# Altium footprint library Revo_element.PcbLib: 178 footprints (part 6 of 12)
Each footprint in its own frame and in the unit in brackets; x right, y up, seen from the top. Pads: shape width x height; smd on the part's side, far side on the other; paste and mask are expansions set on the pad; w line width, h text height; cw(c..) or ccw(c..) is an arc to the next point about the centre after c.
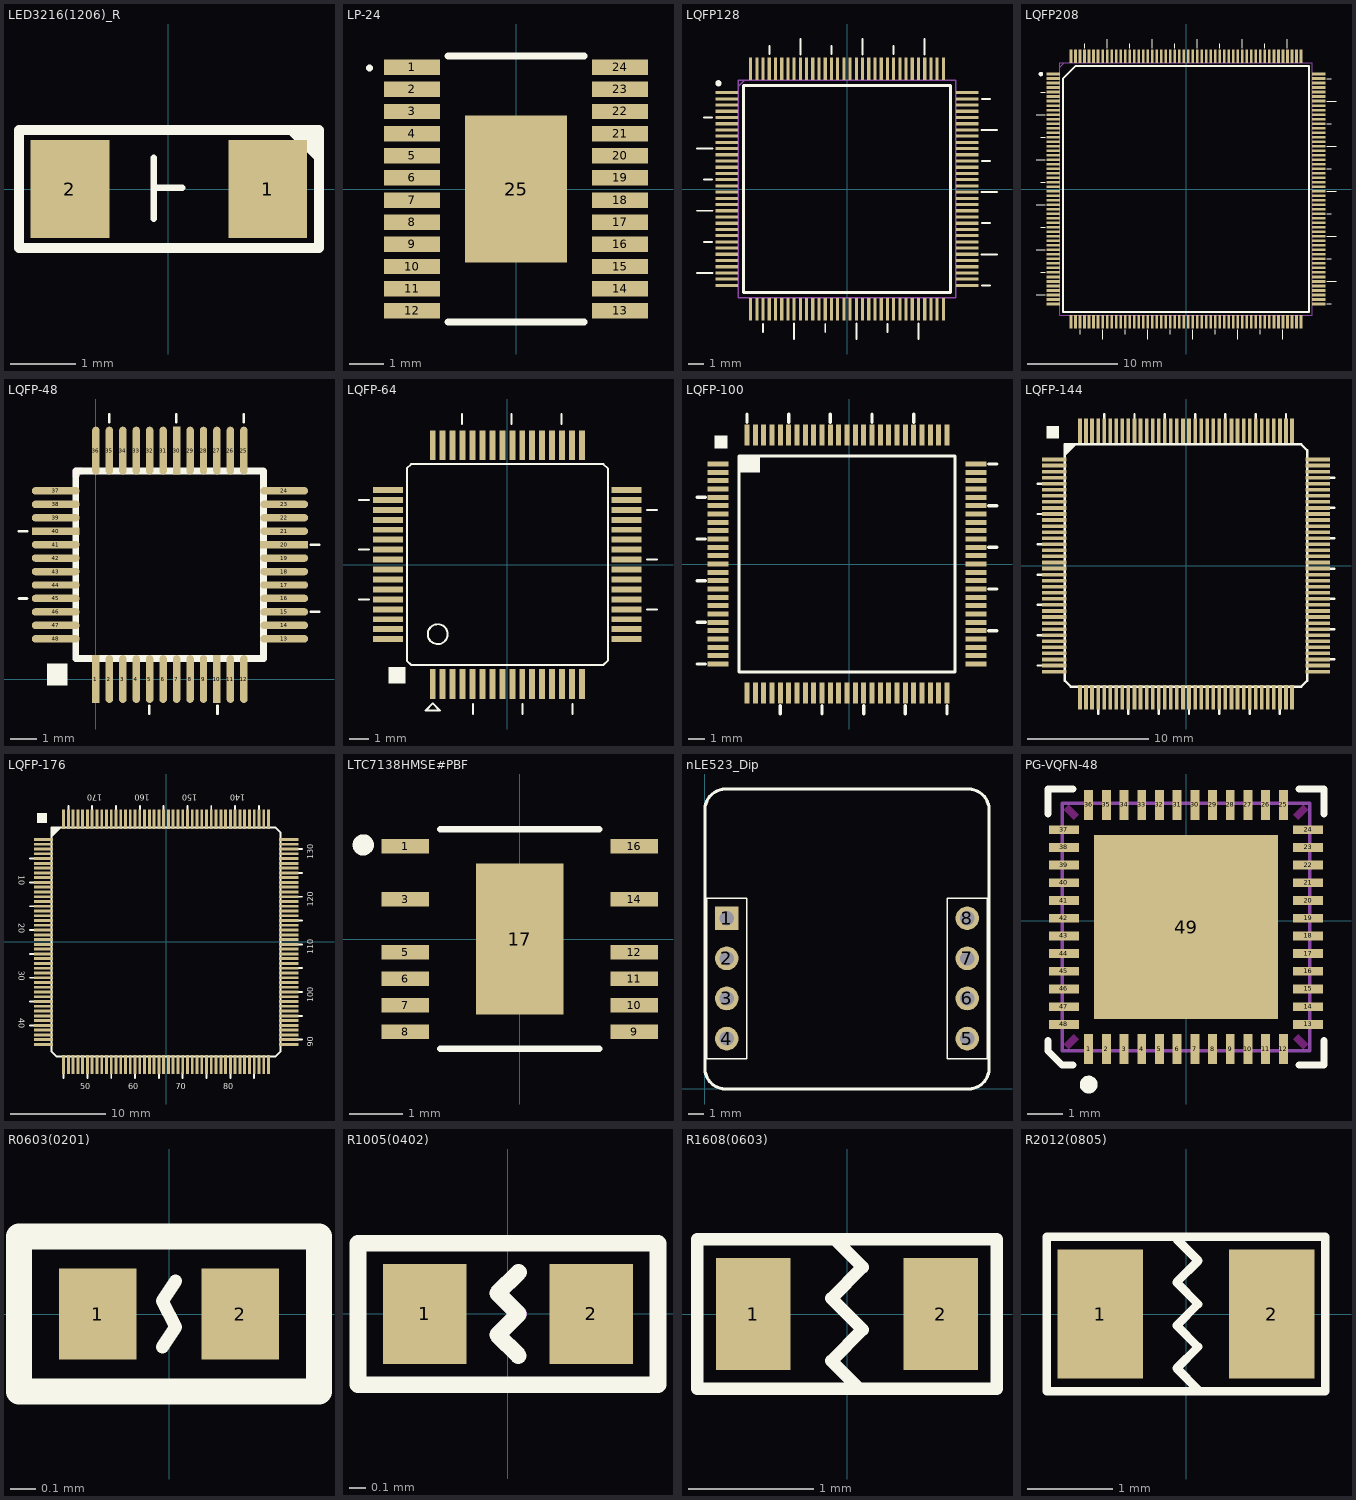
[diagram p5: the footprints below, top view; thin cyan lines are the x and y axes]

## LED3216(1206)_R [mm] "Chip LED 3216(1206)"
pads (2):
  rect 1.2x1.5 smd: 1(1.514,0) 2(-1.5,0)
Top Overlay:
  lines w0.1: -0.22,-0.45 -0.22,0.475 ; -0.22,0.02 0.21,0.02
  lines w0.152: 1.898,0.88 2.291,0.488 2.291,0.898 1.935,0.898 2.191,0.641 2.191,0.828 ; -2.277,-0.9 2.297,-0.9 2.297,0.9 -2.277,0.9 -2.277,-0.9
3D body "LED_1206_Red.stp": height 0.9, standoff 0, extent -1.646,-0.826 1.624,0.824

## LP-24 [mm]
pads (25):
  rect 1.65x0.45 smd: 1(-3.05,3.575) 2(-3.05,2.925) 3(-3.05,2.275) 4(-3.05,1.625) 5(-3.05,0.975) 6(-3.05,0.325) 7(-3.05,-0.325) 8(-3.05,-0.975) 9(-3.05,-1.625) 10(-3.05,-2.275) 11(-3.05,-2.925) 12(-3.05,-3.575) 13(3.05,-3.575) 14(3.05,-2.925) 15(3.05,-2.275) 16(3.05,-1.625) 17(3.05,-0.975) 18(3.05,-0.325) 19(3.05,0.325) 20(3.05,0.975) 21(3.05,1.625) 22(3.05,2.275) 23(3.05,2.925) 24(3.05,3.575)
  rect 3x4.32 smd: 25(0,0)
Top Overlay:
  lines w0.1: -4.3,3.5 cw(c-4.3,3.55) -4.3,3.6 cw(c-4.3,3.55) -4.3,3.5
  lines w0.2: -2,-3.9 2,-3.9 ; -2,3.9 2,3.9
3D body "AAS33001LLPBTR-DD.stp": height 1.24, standoff 0.04, extent -3.21,-3.9 3.21,3.9

## LQFP128 [mm]
pads (128):
  rect 1.475x0.2 smd: 1(-7.738,6.2) 2(-7.738,5.8) 3(-7.738,5.4) 4(-7.738,5) 5(-7.738,4.6) 6(-7.738,4.2) 7(-7.738,3.8) 8(-7.738,3.4) 9(-7.738,3) 10(-7.738,2.6) 11(-7.738,2.2) 12(-7.738,1.8) 13(-7.738,1.4) 14(-7.738,1) 15(-7.738,0.6) 16(-7.738,0.2) 17(-7.738,-0.2) 18(-7.738,-0.6) 19(-7.738,-1) 20(-7.738,-1.4) 21(-7.738,-1.8) 22(-7.738,-2.2) 23(-7.738,-2.6) 24(-7.738,-3) 25(-7.738,-3.4) 26(-7.738,-3.8) 27(-7.738,-4.2) 28(-7.738,-4.6) 29(-7.738,-5) 30(-7.738,-5.4) 31(-7.738,-5.8) 32(-7.738,-6.2) 65(7.738,-6.2) 66(7.738,-5.8) 67(7.738,-5.4) 68(7.738,-5) 69(7.738,-4.6) 70(7.738,-4.2) 71(7.738,-3.8) 72(7.738,-3.4) 73(7.738,-3) 74(7.738,-2.6) 75(7.738,-2.2) 76(7.738,-1.8) 77(7.738,-1.4) 78(7.738,-1) 79(7.738,-0.6) 80(7.738,-0.2) 81(7.738,0.2) 82(7.738,0.6) 83(7.738,1) 84(7.738,1.4) 85(7.738,1.8) 86(7.738,2.2) 87(7.738,2.6) 88(7.738,3) 89(7.738,3.4) 90(7.738,3.8) 91(7.738,4.2) 92(7.738,4.6) 93(7.738,5) 94(7.738,5.4) 95(7.738,5.8) 96(7.738,6.2)
  rect 0.2x1.475 smd: 33(-6.2,-7.738) 34(-5.8,-7.738) 35(-5.4,-7.738) 36(-5,-7.738) 37(-4.6,-7.738) 38(-4.2,-7.738) 39(-3.8,-7.738) 40(-3.4,-7.738) 41(-3,-7.738) 42(-2.6,-7.738) 43(-2.2,-7.738) 44(-1.8,-7.738) 45(-1.4,-7.738) 46(-1,-7.738) 47(-0.6,-7.738) 48(-0.2,-7.738) 49(0.2,-7.738) 50(0.6,-7.738) 51(1,-7.738) 52(1.4,-7.738) 53(1.8,-7.738) 54(2.2,-7.738) 55(2.6,-7.738) 56(3,-7.738) 57(3.4,-7.738) 58(3.8,-7.738) 59(4.2,-7.738) 60(4.6,-7.738) 61(5,-7.738) 62(5.4,-7.738) 63(5.8,-7.738) 64(6.2,-7.738) 97(6.2,7.738) 98(5.8,7.738) 99(5.4,7.738) 100(5,7.738) 101(4.6,7.738) 102(4.2,7.738) 103(3.8,7.738) 104(3.4,7.738) 105(3,7.738) 106(2.6,7.738) 107(2.2,7.738) 108(1.8,7.738) 109(1.4,7.738) 110(1,7.738) 111(0.6,7.738) 112(0.2,7.738) 113(-0.2,7.738) 114(-0.6,7.738) 115(-1,7.738) 116(-1.4,7.738) 117(-1.8,7.738) 118(-2.2,7.738) 119(-2.6,7.738) 120(-3,7.738) 121(-3.4,7.738) 122(-3.8,7.738) 123(-4.2,7.738) 124(-4.6,7.738) 125(-5,7.738) 126(-5.4,7.738) 127(-5.8,7.738) 128(-6.2,7.738)
Top Overlay:
  circle w0.2: c-8.275,6.8 r0.1
  lines w0.127: -9.65,-5.4 -8.65,-5.4 ; -9.65,-1.4 -8.65,-1.4 ; -9.65,2.6 -8.65,2.6 ; -9.188,-3.4 -8.688,-3.4 ; -9.188,0.6 -8.688,0.6 ; -9.188,4.6 -8.688,4.6 ; -5.4,-9.188 -5.4,-8.688 ; -5,8.688 -5,9.188 ; -3.4,-9.65 -3.4,-8.65 ; -3,8.65 -3,9.65 ; -1.4,-9.188 -1.4,-8.688 ; -1,8.688 -1,9.188 ; 0.6,-9.65 0.6,-8.65 ; 1,8.65 1,9.65 ; 2.6,-9.188 2.6,-8.688 ; 3,8.688 3,9.188 ; 4.6,-9.65 4.6,-8.65 ; 5,8.65 5,9.65 ; 8.65,-4.2 9.65,-4.2 ; 8.65,-0.2 9.65,-0.2 ; 8.65,3.8 9.65,3.8 ; 8.688,-6.2 9.188,-6.2 ; 8.688,-2.2 9.188,-2.2 ; 8.688,1.8 9.188,1.8 ; 8.688,5.8 9.188,5.8
  lines w0.2: -6.65,-6.65 6.65,-6.65 6.65,6.65 -6.65,6.65 -6.65,-6.65
Mechanical 13:
  lines w0.1: -7,6.6 -6.6,7 ; -7,-7 7,-7 7,7 -7,7 -7,-7
3D body "SSD1963QL9.stp": height 1.6, standoff 0, extent -8,-8 8,8

## LQFP208 [mm]
pads (208):
  rect 1.475x0.3 smd: 1(-14.738,12.75) 2(-14.738,12.25) 3(-14.738,11.75) 4(-14.738,11.25) 5(-14.738,10.75) 6(-14.738,10.25) 7(-14.738,9.75) 8(-14.738,9.25) 9(-14.738,8.75) 10(-14.738,8.25) 11(-14.738,7.75) 12(-14.738,7.25) 13(-14.738,6.75) 14(-14.738,6.25) 15(-14.738,5.75) 16(-14.738,5.25) 17(-14.738,4.75) 18(-14.738,4.25) 19(-14.738,3.75) 20(-14.738,3.25) 21(-14.738,2.75) 22(-14.738,2.25) 23(-14.738,1.75) 24(-14.738,1.25) 25(-14.738,0.75) 26(-14.738,0.25) 27(-14.738,-0.25) 28(-14.738,-0.75) 29(-14.738,-1.25) 30(-14.738,-1.75) 31(-14.738,-2.25) 32(-14.738,-2.75) 33(-14.738,-3.25) 34(-14.738,-3.75) 35(-14.738,-4.25) 36(-14.738,-4.75) 37(-14.738,-5.25) 38(-14.738,-5.75) 39(-14.738,-6.25) 40(-14.738,-6.75) 41(-14.738,-7.25) 42(-14.738,-7.75) 43(-14.738,-8.25) 44(-14.738,-8.75) 45(-14.738,-9.25) 46(-14.738,-9.75) 47(-14.738,-10.25) 48(-14.738,-10.75) 49(-14.738,-11.25) 50(-14.738,-11.75) 51(-14.738,-12.25) 52(-14.738,-12.75) 105(14.738,-12.75) 106(14.738,-12.25) 107(14.738,-11.75) 108(14.738,-11.25) 109(14.738,-10.75) 110(14.738,-10.25) 111(14.738,-9.75) 112(14.738,-9.25) 113(14.738,-8.75) 114(14.738,-8.25) 115(14.738,-7.75) 116(14.738,-7.25) 117(14.738,-6.75) 118(14.738,-6.25) 119(14.738,-5.75) 120(14.738,-5.25) 121(14.738,-4.75) 122(14.738,-4.25) 123(14.738,-3.75) 124(14.738,-3.25) 125(14.738,-2.75) 126(14.738,-2.25) 127(14.738,-1.75) 128(14.738,-1.25) 129(14.738,-0.75) 130(14.738,-0.25) 131(14.738,0.25) 132(14.738,0.75) 133(14.738,1.25) 134(14.738,1.75) 135(14.738,2.25) 136(14.738,2.75) 137(14.738,3.25) 138(14.738,3.75) 139(14.738,4.25) 140(14.738,4.75) 141(14.738,5.25) 142(14.738,5.75) 143(14.738,6.25) 144(14.738,6.75) 145(14.738,7.25) 146(14.738,7.75) 147(14.738,8.25) 148(14.738,8.75) 149(14.738,9.25) 150(14.738,9.75) 151(14.738,10.25) 152(14.738,10.75) 153(14.738,11.25) 154(14.738,11.75) 155(14.738,12.25) 156(14.738,12.75)
  rect 0.3x1.475 smd: 53(-12.75,-14.738) 54(-12.25,-14.738) 55(-11.75,-14.738) 56(-11.25,-14.738) 57(-10.75,-14.738) 58(-10.25,-14.738) 59(-9.75,-14.738) 60(-9.25,-14.738) 61(-8.75,-14.738) 62(-8.25,-14.738) 63(-7.75,-14.738) 64(-7.25,-14.738) 65(-6.75,-14.738) 66(-6.25,-14.738) 67(-5.75,-14.738) 68(-5.25,-14.738) 69(-4.75,-14.738) 70(-4.25,-14.738) 71(-3.75,-14.738) 72(-3.25,-14.738) 73(-2.75,-14.738) 74(-2.25,-14.738) 75(-1.75,-14.738) 76(-1.25,-14.738) 77(-0.75,-14.738) 78(-0.25,-14.738) 79(0.25,-14.738) 80(0.75,-14.738) 81(1.25,-14.738) 82(1.75,-14.738) 83(2.25,-14.738) 84(2.75,-14.738) 85(3.25,-14.738) 86(3.75,-14.738) 87(4.25,-14.738) 88(4.75,-14.738) 89(5.25,-14.738) 90(5.75,-14.738) 91(6.25,-14.738) 92(6.75,-14.738) 93(7.25,-14.738) 94(7.75,-14.738) 95(8.25,-14.738) 96(8.75,-14.738) 97(9.25,-14.738) 98(9.75,-14.738) 99(10.25,-14.738) 100(10.75,-14.738) 101(11.25,-14.738) 102(11.75,-14.738) 103(12.25,-14.738) 104(12.75,-14.738) 157(12.75,14.738) 158(12.25,14.738) 159(11.75,14.738) 160(11.25,14.738) 161(10.75,14.738) 162(10.25,14.738) 163(9.75,14.738) 164(9.25,14.738) 165(8.75,14.738) 166(8.25,14.738) 167(7.75,14.738) 168(7.25,14.738) 169(6.75,14.738) 170(6.25,14.738) 171(5.75,14.738) 172(5.25,14.738) 173(4.75,14.738) 174(4.25,14.738) 175(3.75,14.738) 176(3.25,14.738) 177(2.75,14.738) 178(2.25,14.738) 179(1.75,14.738) 180(1.25,14.738) 181(0.75,14.738) 182(0.25,14.738) 183(-0.25,14.738) 184(-0.75,14.738) 185(-1.25,14.738) 186(-1.75,14.738) 187(-2.25,14.738) 188(-2.75,14.738) 189(-3.25,14.738) 190(-3.75,14.738) 191(-4.25,14.738) 192(-4.75,14.738) 193(-5.25,14.738) 194(-5.75,14.738) 195(-6.25,14.738) 196(-6.75,14.738) 197(-7.25,14.738) 198(-7.75,14.738) 199(-8.25,14.738) 200(-8.75,14.738) 201(-9.25,14.738) 202(-9.75,14.738) 203(-10.25,14.738) 204(-10.75,14.738) 205(-11.25,14.738) 206(-11.75,14.738) 207(-12.25,14.738) 208(-12.75,14.738)
Top Overlay:
  circle w0.25: c-16.1,12.75 r0.125
  lines w0.127: -16.638,-11.75 -15.638,-11.75 ; -16.638,-6.75 -15.638,-6.75 ; -16.638,-1.75 -15.638,-1.75 ; -16.638,3.25 -15.638,3.25 ; -16.638,8.25 -15.638,8.25 ; -16.138,-9.25 -15.638,-9.25 ; -16.138,-4.25 -15.638,-4.25 ; -16.138,0.75 -15.638,0.75 ; -16.138,5.75 -15.638,5.75 ; -16.138,10.75 -15.638,10.75 ; -11.75,-16.138 -11.75,-15.638 ; -11.25,15.638 -11.25,16.138 ; -9.25,-16.638 -9.25,-15.638 ; -8.75,15.638 -8.75,16.638 ; -6.75,-16.138 -6.75,-15.638 ; -6.25,15.638 -6.25,16.138 ; -4.25,-16.638 -4.25,-15.638 ; -3.75,15.638 -3.75,16.638 ; -1.75,-16.138 -1.75,-15.638 ; -1.25,15.638 -1.25,16.138 ; 0.75,-16.638 0.75,-15.638 ; 1.25,15.638 1.25,16.638 ; 3.25,-16.138 3.25,-15.638 ; 3.75,15.638 3.75,16.138 ; 5.75,-16.638 5.75,-15.638 ; 6.25,15.638 6.25,16.638 ; 8.25,-16.138 8.25,-15.638 ; 8.75,15.638 8.75,16.138 ; 10.75,-16.638 10.75,-15.638 ; 11.25,15.638 11.25,16.638 ; 15.638,-12.75 16.138,-12.75 ; 15.638,-10.25 16.638,-10.25 ; 15.638,-7.75 16.138,-7.75 ; 15.638,-5.25 16.638,-5.25 ; 15.638,-2.75 16.138,-2.75 ; 15.638,-0.25 16.638,-0.25 ; 15.638,2.25 16.138,2.25 ; 15.638,4.75 16.638,4.75 ; 15.638,7.25 16.138,7.25 ; 15.638,9.75 16.638,9.75 ; 15.638,12.25 16.138,12.25
  lines w0.2: -13.65,-13.65 -13.65,12.25 -12.25,13.65 13.65,13.65 13.65,-13.65 -13.65,-13.65
Mechanical 13:
  lines w0.1: -14,13.5 -13.5,14 ; -14,-14 14,-14 14,14 -14,14 -14,-14
3D body "STM32F429BGT6.stp": height 1.6, standoff 0, extent -15,-15 15,15

## LQFP-48 [mil]
pads (48):
  rect 10.97x70 smd: 1(0,0) 10(177.28,0) 30(118.18,334.68)
  oval 10.97x70 smd: 2(19.68,0) 3(39.38,0) 4(59.08,0) 5(78.78,0) 6(98.48,0) 7(118.18,0) 8(137.88,0) 9(157.58,0) 11(197,0) 12(216.68,0) 25(216.68,334.68) 26(197,334.68) 27(177.28,334.68) 28(157.58,334.68) 29(137.88,334.68) 31(98.48,334.68) 32(78.78,334.68) 33(59.08,334.68) 34(39.38,334.68) 35(19.68,334.68) 36(0,334.68)
  oval 70x10.97 smd: 13(275.68,59) 14(275.68,78.68) 15(275.68,98.38) 16(275.68,118.08) 17(275.68,137.78) 18(275.68,157.48) 19(275.68,177.18) 21(275.68,216.58) 22(275.68,236.28) 23(275.68,256) 24(275.68,275.68) 37(-58.98,275.68) 38(-58.98,256) 39(-58.98,236.28) 41(-58.98,196.88) 42(-58.98,177.18) 43(-58.98,157.48) 44(-58.98,137.78) 45(-58.98,118.08) 46(-58.98,98.38) 47(-58.98,78.68) 48(-58.98,59)
  rect 70x10.97 smd: 20(275.68,196.88) 40(-58.98,216.58)
Top Overlay:
  rectangle: -71.36,-9.35 -41.34,22.64
  lines w3.94: -112.7,118.11 -100.89,118.11 ; -112.7,216.54 -100.89,216.54 ; 19.68,375.98 19.68,387.8 ; 78.25,-50.69 78.25,-38.88 ; 117.62,375.98 117.62,387.8 ; 178.15,-50.69 178.15,-38.88 ; 216.54,375.98 216.54,387.8 ; 314.96,98.43 326.77,98.43 ; 314.96,196.85 326.77,196.85
  lines w10: -29.53,304.63 -29.53,30.02 245.78,30.02 ; -29.18,298.58 -29.18,304.78 -22.88,304.78 ; -29.18,304.63 245.57,304.63 245.57,29.78
Mechanical 1:
  lines w10: -29.18,298.58 -29.18,304.78 -22.88,304.78 ; 239.58,29.78 245.78,29.78
3D body "User Library-Quad50M48.step": height 61.42, standoff 0, extent -70.08,-10.49 284.25,343.84

## LQFP-64 [mm]
pads (64):
  rect 0.3x1.5 smd: 1(-3.75,-6) 2(-3.25,-6) 3(-2.75,-6) 4(-2.25,-6) 5(-1.75,-6) 6(-1.25,-6) 7(-0.75,-6) 8(-0.25,-6) 9(0.25,-6) 10(0.75,-6) 11(1.25,-6) 12(1.75,-6) 13(2.25,-6) 14(2.75,-6) 15(3.25,-6) 16(3.75,-6) 33(3.75,6) 34(3.25,6) 35(2.75,6) 36(2.25,6) 37(1.75,6) 38(1.25,6) 39(0.75,6) 40(0.25,6) 41(-0.25,6) 42(-0.75,6) 43(-1.25,6) 44(-1.75,6) 45(-2.25,6) 46(-2.75,6) 47(-3.25,6) 48(-3.75,6)
  rect 1.5x0.3 smd: 17(6,-3.75) 18(6,-3.25) 19(6,-2.75) 20(6,-2.25) 21(6,-1.75) 22(6,-1.25) 23(6,-0.75) 24(6,-0.25) 25(6,0.25) 26(6,0.75) 27(6,1.25) 28(6,1.75) 29(6,2.25) 30(6,2.75) 31(6,3.25) 32(6,3.75) 49(-6,3.75) 50(-6,3.25) 51(-6,2.75) 52(-6,2.25) 53(-6,1.75) 54(-6,1.25) 55(-6,0.75) 56(-6,0.25) 57(-6,-0.25) 58(-6,-0.75) 59(-6,-1.25) 60(-6,-1.75) 61(-6,-2.25) 62(-6,-2.75) 63(-6,-3.25) 64(-6,-3.75)
Top Overlay:
  circle w0.1: c-3.5,-3.5 r0.5
  rectangle: -5.975,-5.975 -5.125,-5.138
  lines w0.1: -7.448,-1.745 -6.948,-1.745 ; -7.448,0.755 -6.948,0.755 ; -7.448,3.255 -6.948,3.255 ; -2.278,7.07 -2.278,7.57 ; -1.727,-7.513 -1.727,-7.013 ; 0.222,7.07 0.222,7.57 ; 0.762,-7.513 0.762,-7.013 ; 2.722,7.07 2.722,7.57 ; 3.273,-7.513 3.273,-7.013 ; 7.016,-2.248 7.516,-2.248 ; 7.016,0.252 7.516,0.252 ; 7.016,2.752 7.516,2.752 ; -3.749,-6.982 -4.115,-7.347 -3.384,-7.347 -3.749,-6.982 ; -3.749,-6.982 -3.749,-6.982 ; -5.05,-4.833 -5.05,4.833 -4.833,5.05 4.833,5.05 5.05,4.833 5.05,-4.833 4.833,-5.05 -4.833,-5.05 -5.05,-4.833 ; -3.785,-7.017 -3.785,-7.017
3D body "User Library-LQFP-64.step": height 1.7, standoff -0.01, extent -6,-6 6,6

## LQFP-100 [mm]
pads (100):
  rect 1.25x0.3 smd: 1(-7.877,6) 2(-7.877,5.5) 3(-7.877,5) 4(-7.877,4.5) 5(-7.877,4) 6(-7.877,3.5) 7(-7.877,3) 8(-7.877,2.5) 9(-7.877,2) 10(-7.877,1.5) 11(-7.877,1) 12(-7.877,0.5) 13(-7.877,0) 14(-7.877,-0.5) 15(-7.877,-1) 16(-7.877,-1.5) 17(-7.877,-2) 18(-7.877,-2.5) 19(-7.877,-3) 20(-7.877,-3.5) 21(-7.877,-4) 22(-7.877,-4.5) 23(-7.877,-5) 24(-7.877,-5.5) 25(-7.877,-6) 51(7.623,-6) 52(7.623,-5.5) 53(7.623,-5) 54(7.623,-4.5) 55(7.623,-4) 56(7.623,-3.5) 57(7.623,-3) 58(7.623,-2.5) 59(7.623,-2) 60(7.623,-1.5) 61(7.623,-1) 62(7.623,-0.5) 63(7.623,0) 64(7.623,0.5) 65(7.623,1) 66(7.623,1.5) 67(7.623,2) 68(7.623,2.5) 69(7.623,3) 70(7.623,3.5) 71(7.623,4) 72(7.623,4.5) 73(7.623,5) 74(7.623,5.5) 75(7.623,6)
  rect 0.3x1.25 smd: 26(-6.127,-7.75) 27(-5.627,-7.75) 28(-5.127,-7.75) 29(-4.627,-7.75) 30(-4.127,-7.75) 31(-3.627,-7.75) 32(-3.127,-7.75) 33(-2.627,-7.75) 34(-2.127,-7.75) 35(-1.627,-7.75) 36(-1.127,-7.75) 37(-0.627,-7.75) 38(-0.127,-7.75) 39(0.373,-7.75) 40(0.873,-7.75) 41(1.373,-7.75) 42(1.873,-7.75) 43(2.373,-7.75) 44(2.873,-7.75) 45(3.373,-7.75) 46(3.873,-7.75) 47(4.373,-7.75) 48(4.873,-7.75) 49(5.373,-7.75) 50(5.873,-7.75) 76(5.873,7.75) 77(5.373,7.75) 78(4.873,7.75) 79(4.373,7.75) 80(3.873,7.75) 81(3.373,7.75) 82(2.873,7.75) 83(2.373,7.75) 84(1.873,7.75) 85(1.373,7.75) 86(0.873,7.75) 87(0.373,7.75) 88(-0.127,7.75) 89(-0.627,7.75) 90(-1.127,7.75) 91(-1.627,7.75) 92(-2.127,7.75) 93(-2.627,7.75) 94(-3.127,7.75) 95(-3.627,7.75) 96(-4.127,7.75) 97(-4.627,7.75) 98(-5.127,7.75) 99(-5.627,7.75) 100(-6.127,7.75)
Top Overlay:
  region: -8.059,6.934 -7.297,6.934 -7.297,7.696 -8.059,7.696
  region: -6.627,5.5 -5.377,5.5 -5.377,6.5 -6.627,6.5
  lines w0.2: -9.127,-6 -8.627,-6 ; -9.127,-3.5 -8.627,-3.5 ; -9.127,-1 -8.627,-1 ; -9.127,1.5 -8.627,1.5 ; -9.127,4 -8.627,4 ; -6.127,8.5 -6.127,9 ; -4.127,-9 -4.127,-8.5 ; -3.627,8.5 -3.627,9 ; -1.627,-9 -1.627,-8.5 ; -1.127,8.5 -1.127,9 ; 0.873,-9 0.873,-8.5 ; 1.373,8.5 1.373,9 ; 3.373,-9 3.373,-8.5 ; 3.873,8.5 3.873,9 ; 5.873,-9 5.873,-8.5 ; 8.373,-4 8.873,-4 ; 8.373,-1.5 8.873,-1.5 ; 8.373,1 8.873,1 ; 8.373,3.5 8.873,3.5 ; 8.373,6 8.873,6 ; -6.602,-6.475 -6.602,6.475 6.348,6.475 6.348,-6.475 -6.602,-6.475
3D body "SW3dPS-TQFP100-1.STEP": height 1.61, standoff -0.01, extent -8.127,-8 7.873,8

## LQFP-144 [mm]
pads (144):
  rect 2x0.3 smd: 1(-10.875,8.75) 2(-10.875,8.25) 3(-10.875,7.75) 4(-10.875,7.25) 5(-10.875,6.75) 6(-10.875,6.25) 7(-10.875,5.75) 8(-10.875,5.25) 9(-10.875,4.75) 10(-10.875,4.25) 11(-10.875,3.75) 12(-10.875,3.25) 13(-10.875,2.75) 14(-10.875,2.25) 15(-10.875,1.75) 16(-10.875,1.25) 17(-10.875,0.75) 18(-10.875,0.25) 19(-10.875,-0.25) 20(-10.875,-0.75) 21(-10.875,-1.25) 22(-10.875,-1.75) 23(-10.875,-2.25) 24(-10.875,-2.75) 25(-10.875,-3.25) 26(-10.875,-3.75) 27(-10.875,-4.25) 28(-10.875,-4.75) 29(-10.875,-5.25) 30(-10.875,-5.75) 31(-10.875,-6.25) 32(-10.875,-6.75) 33(-10.875,-7.25) 34(-10.875,-7.75) 35(-10.875,-8.25) 36(-10.875,-8.75) 73(10.875,-8.75) 74(10.875,-8.25) 75(10.875,-7.75) 76(10.875,-7.25) 77(10.875,-6.75) 78(10.875,-6.25) 79(10.875,-5.75) 80(10.875,-5.25) 81(10.875,-4.75) 82(10.875,-4.25) 83(10.875,-3.75) 84(10.875,-3.25) 85(10.875,-2.75) 86(10.875,-2.25) 87(10.875,-1.75) 88(10.875,-1.25) 89(10.875,-0.75) 90(10.875,-0.25) 91(10.875,0.25) 92(10.875,0.75) 93(10.875,1.25) 94(10.875,1.75) 95(10.875,2.25) 96(10.875,2.75) 97(10.875,3.25) 98(10.875,3.75) 99(10.875,4.25) 100(10.875,4.75) 101(10.875,5.25) 102(10.875,5.75) 103(10.875,6.25) 104(10.875,6.75) 105(10.875,7.25) 106(10.875,7.75) 107(10.875,8.25) 108(10.875,8.75)
  rect 0.3x2 smd: 37(-8.75,-10.875) 38(-8.25,-10.875) 39(-7.75,-10.875) 40(-7.25,-10.875) 41(-6.75,-10.875) 42(-6.25,-10.875) 43(-5.75,-10.875) 44(-5.25,-10.875) 45(-4.75,-10.875) 46(-4.25,-10.875) 47(-3.75,-10.875) 48(-3.25,-10.875) 49(-2.75,-10.875) 50(-2.25,-10.875) 51(-1.75,-10.875) 52(-1.25,-10.875) 53(-0.75,-10.875) 54(-0.25,-10.875) 55(0.25,-10.875) 56(0.75,-10.875) 57(1.25,-10.875) 58(1.75,-10.875) 59(2.25,-10.875) 60(2.75,-10.875) 61(3.25,-10.875) 62(3.75,-10.875) 63(4.25,-10.875) 64(4.75,-10.875) 65(5.25,-10.875) 66(5.75,-10.875) 67(6.25,-10.875) 68(6.75,-10.875) 69(7.25,-10.875) 70(7.75,-10.875) 71(8.25,-10.875) 72(8.75,-10.875) 109(8.75,11.125) 110(8.25,11.125) 111(7.75,11.125) 112(7.25,11.125) 113(6.75,11.125) 114(6.25,11.125) 115(5.75,11.125) 116(5.25,11.125) 117(4.75,11.125) 118(4.25,11.125) 119(3.75,11.125) 120(3.25,11.125) 121(2.75,11.125) 122(2.25,11.125) 123(1.75,11.125) 124(1.25,11.125) 125(0.75,11.125) 126(0.25,11.125) 127(-0.25,11.125) 128(-0.75,11.125) 129(-1.25,11.125) 130(-1.75,11.125) 131(-2.25,11.125) 132(-2.75,11.125) 133(-3.25,11.125) 134(-3.75,11.125) 135(-4.25,11.125) 136(-4.75,11.125) 137(-5.25,11.125) 138(-5.75,11.125) 139(-6.25,11.125) 140(-6.75,11.125) 141(-7.25,11.125) 142(-7.75,11.125) 143(-8.25,11.125) 144(-8.75,11.125)
Top Overlay:
  region: -10,9 -9,10 -10,10
  region: -11.5,10.5 -10.5,10.5 -10.5,11.5 -11.5,11.5
  lines w0.2: -12.25,-8.25 -11.75,-8.25 ; -12.25,-5.75 -11.75,-5.75 ; -12.25,-3.25 -11.75,-3.25 ; -12.25,-0.75 -11.75,-0.75 ; -12.25,1.75 -11.75,1.75 ; -12.25,4.25 -11.75,4.25 ; -12.25,6.75 -11.75,6.75 ; -7.25,-12.25 -7.25,-11.75 ; -6.75,12 -6.75,12.5 ; -4.75,-12.25 -4.75,-11.75 ; -4.25,12 -4.25,12.5 ; -2.25,-12.25 -2.25,-11.75 ; -1.75,12 -1.75,12.5 ; 0.25,-12.25 0.25,-11.75 ; 0.75,12 0.75,12.5 ; 2.75,-12.25 2.75,-11.75 ; 3.25,12 3.25,12.5 ; 5.25,-12.25 5.25,-11.75 ; 5.75,12 5.75,12.5 ; 7.75,-12.25 7.75,-11.75 ; 8.25,12 8.25,12.5 ; 11.75,-7.75 12.25,-7.75 ; 11.75,-5.25 12.25,-5.25 ; 11.75,-2.75 12.25,-2.75 ; 11.75,-0.25 12.25,-0.25 ; 11.75,2.25 12.25,2.25 ; 11.75,4.75 12.25,4.75 ; 11.75,7.25 12.25,7.25 ; -10,-9.5 -10,10 9.5,10 10,9.5 10,-9.5 9.5,-10 -9.5,-10 -10,-9.5
3D body "SW3dPS-DSP_144 PIN TQFP.STEP": height 1.7, standoff 0.05, extent -11.035,-10.96 10.965,11.04

## LQFP-176 [mm]
pads (176):
  rect 2x0.3 smd: 1(-12.875,10.75) 2(-12.875,10.25) 3(-12.875,9.75) 4(-12.875,9.25) 5(-12.875,8.75) 6(-12.875,8.25) 7(-12.875,7.75) 8(-12.875,7.25) 9(-12.875,6.75) 10(-12.875,6.25) 11(-12.875,5.75) 12(-12.875,5.25) 13(-12.875,4.75) 14(-12.875,4.25) 15(-12.875,3.75) 16(-12.875,3.25) 17(-12.875,2.75) 18(-12.875,2.25) 19(-12.875,1.75) 20(-12.875,1.25) 21(-12.875,0.75) 22(-12.875,0.25) 23(-12.875,-0.25) 24(-12.875,-0.75) 25(-12.875,-1.25) 26(-12.875,-1.75) 27(-12.875,-2.25) 28(-12.875,-2.75) 29(-12.875,-3.25) 30(-12.875,-3.75) 31(-12.875,-4.25) 32(-12.875,-4.75) 33(-12.875,-5.25) 34(-12.875,-5.75) 35(-12.875,-6.25) 36(-12.875,-6.75) 37(-12.875,-7.25) 38(-12.875,-7.75) 39(-12.875,-8.25) 40(-12.875,-8.75) 41(-12.875,-9.25) 42(-12.875,-9.75) 43(-12.875,-10.25) 44(-12.875,-10.75) 89(12.875,-10.75) 90(12.875,-10.25) 91(12.875,-9.75) 92(12.875,-9.25) 93(12.875,-8.75) 94(12.875,-8.25) 95(12.875,-7.75) 96(12.875,-7.25) 97(12.875,-6.75) 98(12.875,-6.25) 99(12.875,-5.75) 100(12.875,-5.25) 101(12.875,-4.75) 102(12.875,-4.25) 103(12.875,-3.75) 104(12.875,-3.25) 105(12.875,-2.75) 106(12.875,-2.25) 107(12.875,-1.75) 108(12.875,-1.25) 109(12.875,-0.75) 110(12.875,-0.25) 111(12.875,0.25) 112(12.875,0.75) 113(12.875,1.25) 114(12.875,1.75) 115(12.875,2.25) 116(12.875,2.75) 117(12.875,3.25) 118(12.875,3.75) 119(12.875,4.25) 120(12.875,4.75) 121(12.875,5.25) 122(12.875,5.75) 123(12.875,6.25) 124(12.875,6.75) 125(12.875,7.25) 126(12.875,7.75) 127(12.875,8.25) 128(12.875,8.75) 129(12.875,9.25) 130(12.875,9.75) 131(12.875,10.25) 132(12.875,10.75)
  rect 0.3x2 smd: 45(-10.75,-12.875) 46(-10.25,-12.875) 47(-9.75,-12.875) 48(-9.25,-12.875) 49(-8.75,-12.875) 50(-8.25,-12.875) 51(-7.75,-12.875) 52(-7.25,-12.875) 53(-6.75,-12.875) 54(-6.25,-12.875) 55(-5.75,-12.875) 56(-5.25,-12.875) 57(-4.75,-12.875) 58(-4.25,-12.875) 59(-3.75,-12.875) 60(-3.25,-12.875) 61(-2.75,-12.875) 62(-2.25,-12.875) 63(-1.75,-12.875) 64(-1.25,-12.875) 65(-0.75,-12.875) 66(-0.25,-12.875) 67(0.25,-12.875) 68(0.75,-12.875) 69(1.25,-12.875) 70(1.75,-12.875) 71(2.25,-12.875) 72(2.75,-12.875) 73(3.25,-12.875) 74(3.75,-12.875) 75(4.25,-12.875) 76(4.75,-12.875) 77(5.25,-12.875) 78(5.75,-12.875) 79(6.25,-12.875) 80(6.75,-12.875) 81(7.25,-12.875) 82(7.75,-12.875) 83(8.25,-12.875) 84(8.75,-12.875) 85(9.25,-12.875) 86(9.75,-12.875) 87(10.25,-12.875) 88(10.75,-12.875) 133(10.75,12.875) 134(10.25,12.875) 135(9.75,12.875) 136(9.25,12.875) 137(8.75,12.875) 138(8.25,12.875) 139(7.75,12.875) 140(7.25,12.875) 141(6.75,12.875) 142(6.25,12.875) 143(5.75,12.875) 144(5.25,12.875) 145(4.75,12.875) 146(4.25,12.875) 147(3.75,12.875) 148(3.25,12.875) 149(2.75,12.875) 150(2.25,12.875) 151(1.75,12.875) 152(1.25,12.875) 153(0.75,12.875) 154(0.25,12.875) 155(-0.25,12.875) 156(-0.75,12.875) 157(-1.25,12.875) 158(-1.75,12.875) 159(-2.25,12.875) 160(-2.75,12.875) 161(-3.25,12.875) 162(-3.75,12.875) 163(-4.25,12.875) 164(-4.75,12.875) 165(-5.25,12.875) 166(-5.75,12.875) 167(-6.25,12.875) 168(-6.75,12.875) 169(-7.25,12.875) 170(-7.75,12.875) 171(-8.25,12.875) 172(-8.75,12.875) 173(-9.25,12.875) 174(-9.75,12.875) 175(-10.25,12.875) 176(-10.75,12.875)
Top Overlay:
  region: -13.5,12.5 -12.5,12.5 -12.5,13.5 -13.5,13.5
  region: -12,11 -11,12 -12,12
  lines w0.2: -14.25,-8.75 -13.75,-8.75 ; -14.25,-6.25 -13.75,-6.25 ; -14.25,-3.75 -13.75,-3.75 ; -14.25,-1.25 -13.75,-1.25 ; -14.25,1.25 -13.75,1.25 ; -14.25,3.75 -13.75,3.75 ; -14.25,6.25 -13.75,6.25 ; -14.25,8.75 -13.75,8.75 ; -10.75,-14.25 -10.75,-13.75 ; -10.25,13.75 -10.25,14.25 ; -8.25,-14.25 -8.25,-13.75 ; -7.75,13.75 -7.75,14.25 ; -5.75,-14.25 -5.75,-13.75 ; -5.25,13.75 -5.25,14.25 ; -3.25,-14.25 -3.25,-13.75 ; -2.75,13.75 -2.75,14.25 ; -0.75,-14.25 -0.75,-13.75 ; -0.25,13.75 -0.25,14.25 ; 1.75,-14.25 1.75,-13.75 ; 2.25,13.75 2.25,14.25 ; 4.25,-14.25 4.25,-13.75 ; 4.75,13.75 4.75,14.25 ; 6.75,-14.25 6.75,-13.75 ; 7.25,13.75 7.25,14.25 ; 9.25,-14.25 9.25,-13.75 ; 9.75,13.75 9.75,14.25 ; 13.75,-10.25 14.25,-10.25 ; 13.75,-7.75 14.25,-7.75 ; 13.75,-5.25 14.25,-5.25 ; 13.75,-2.75 14.25,-2.75 ; 13.75,-0.25 14.25,-0.25 ; 13.75,2.25 14.25,2.25 ; 13.75,4.75 14.25,4.75 ; 13.75,7.25 14.25,7.25 ; 13.75,9.75 14.25,9.75 ; -12,-11.5 -12,12 11.5,12 12,11.5 12,-11.5 11.5,-12 -11.5,-12 -12,-11.5
  text "160" at -1.7,15.425 h0.63
  text "130" at 15.425,8.7 h0.63
  text "100" at 15.425,-6.3 h0.63
  text "120" at 15.425,3.7 h0.63
  text "110" at 15.425,-1.3 h0.63
  text "90" at 15.425,-10.987 h0.63
  text "140" at 8.3,15.425 h0.63
  text "80" at 6.013,-15.425 h0.63
  text "150" at 3.3,15.425 h0.63
  text "70" at 1.012,-15.425 h0.63
  text "170" at -6.7,15.425 h0.63
  text "50" at -8.987,-15.425 h0.63
  text "60" at -3.988,-15.425 h0.63
  text "10" at -15.425,6.987 h0.63
  text "20" at -15.425,1.987 h0.63
  text "30" at -15.425,-3.013 h0.63
  text "40" at -15.425,-8.013 h0.63
3D body "User Library-LQFP176.step": height 1.7, standoff 0, extent -13.065,-13.046 12.955,12.975

## LTC7138HMSE#PBF [mm]
pads (13):
  rect 0.9x0.28 smd: 1(-2.16,1.75) 3(-2.16,0.75) 5(-2.16,-0.25) 6(-2.16,-0.75) 7(-2.16,-1.25) 8(-2.16,-1.75) 9(2.16,-1.75) 10(2.16,-1.25) 11(2.16,-0.75) 12(2.16,-0.25) 14(2.16,0.75) 16(2.16,1.75)
  rect 1.651x2.845 smd paste-2: 17(0,0)
Top Overlay:
  circle w0.2: c-2.95,1.775 r0.1
  lines w0.127: -1.5,-2.07 1.5,-2.07 ; -1.5,2.07 1.5,2.07
3D body: height 1.1, standoff 0, extent -2.54,-2.032 2.54,2.032

## nLE523_Dip [mm]
pads (8):
  rect 1.5x1.5 hole 0.9: 1(1.38,10.815)
  round 1.5 hole 0.9: 2(1.38,8.275) 3(1.38,5.735) 4(1.38,3.195) 5(16.62,3.195) 6(16.62,5.735) 7(16.62,8.275) 8(16.62,10.815)
Top Overlay:
  lines w0.1: 0.11,1.925 2.65,1.925 2.65,12.085 0.11,12.085 0.11,1.925 ; 15.35,1.925 17.89,1.925 17.89,12.085 15.35,12.085 15.35,1.925
  lines w0.2: 1.3,19 ccw(c1.3,17.7) 0,17.7 0,1.3 ccw(c1.3,1.3) 1.3,0 16.7,0 ccw(c16.7,1.3) 18,1.3 18,17.7 ccw(c16.7,17.7) 16.7,19 ; 1.305,19.005 16.695,19.005
3D body: height 0.51, standoff 0, extent 0,0 18,19.001

## PG-VQFN-48 [mm]
pads (49):
  rect 0.25x0.85 smd paste+0 mask+0: 1(-2.756,-3.628) 2(-2.256,-3.628) 3(-1.756,-3.628) 4(-1.256,-3.628) 5(-0.756,-3.628) 6(-0.256,-3.628) 7(0.244,-3.628) 8(0.744,-3.628) 9(1.244,-3.628) 10(1.744,-3.628) 11(2.244,-3.628) 12(2.744,-3.628) 25(2.744,3.272) 26(2.244,3.272) 27(1.744,3.272) 28(1.244,3.272) 29(0.744,3.272) 30(0.244,3.272) 31(-0.256,3.272) 32(-0.756,3.272) 33(-1.256,3.272) 34(-1.756,3.272) 35(-2.256,3.272) 36(-2.756,3.272)
  rect 0.85x0.25 smd paste+0 mask+0: 13(3.444,-2.928) 14(3.444,-2.428) 15(3.444,-1.928) 16(3.444,-1.428) 17(3.444,-0.928) 18(3.444,-0.428) 19(3.444,0.072) 20(3.444,0.572) 21(3.444,1.072) 22(3.444,1.572) 23(3.444,2.072) 24(3.444,2.572) 37(-3.456,2.572) 38(-3.456,2.072) 39(-3.456,1.572) 40(-3.456,1.072) 41(-3.456,0.572) 42(-3.456,0.072) 43(-3.456,-0.428) 44(-3.456,-0.928) 45(-3.456,-1.428) 46(-3.456,-1.928) 47(-3.456,-2.428) 48(-3.456,-2.928)
  rect 5.2x5.2 smd paste+0 mask+0: 49(-0.006,-0.178)
Top Layer keep-out:
  region: -3.463,3.137 -3.321,3.279 -3.038,2.996 -3.18,2.854
  region: 3.31,3.279 3.452,3.137 3.169,2.854 3.027,2.996
  region: 3.452,-3.494 3.31,-3.636 3.027,-3.353 3.169,-3.211
  region: -3.321,-3.636 -3.463,-3.494 -3.18,-3.211 -3.038,-3.353
Top Overlay:
  circle w0.25: c-2.756,-4.628 r0.125
  lines w0.2: -3.906,-3.378 -3.906,-3.678 -3.506,-4.078 -3.206,-4.078 ; -3.906,3.022 -3.906,3.722 -3.206,3.722 ; 3.194,-4.078 3.894,-4.078 3.894,-3.378 ; 3.194,3.722 3.894,3.722 3.894,3.022
Mechanical 13:
  lines w0.1: -3.506,-3.678 -3.506,3.322 3.494,3.322 3.494,-3.678 -3.506,-3.678
Mechanical 15:
  lines w0.1: -0.506,-0.178 0.494,-0.178 ; -0.006,-0.678 -0.006,0.322
3D body "VQFN-48.stp": height 0.91, standoff 0, extent -3.506,-3.678 3.494,3.322

## R0603(0201) [mm] "Chip Resistor 0603(0201)"
pads (2):
  rect 0.3x0.35 smd: 1(-0.275,0) 2(0.275,0)
Top Overlay:
  lines w0.05: -0.025,-0.127 0.025,-0.051 -0.025,0.051 0.025,0.127
  lines w0.1: -0.58,-0.3 0.58,-0.3 0.58,0.3 -0.58,0.3 -0.58,-0.3
3D body "User Library-SMD RESISTOR-1.step": height 0.22, standoff -0.02, extent -0.3,-0.15 0.3,0.15

## R1005(0402) [mm] "Chip Resistor 1005(0402)"
pads (2):
  rect 0.5x0.6 smd: 1(-0.5,0) 2(0.5,0)
Top Overlay:
  lines w0.1: 0.062,-0.25 -0.062,-0.125 0.062,0 -0.062,0.125 0.063,0.25 ; -0.9,-0.425 -0.9,0.425 0.9,0.425 0.9,-0.425 -0.9,-0.425
Mechanical 13:
  lines w0.1: -0.062,-0.125 -0.062,-0.125 ; -0.062,0.125 -0.062,0.125 ; 0.063,0 0.063,0
3D body "User Library-RESC1005X04N.step": height 0.35, standoff 0, extent -0.5,-0.25 0.5,0.25

## R1608(0603) [mm] "Chip Resistor 1608(0603)"
pads (2):
  rect 0.6x0.9 smd: 1(-0.75,0) 2(0.75,0)
Top Overlay:
  lines w0.1: -0.088,0.588 0.125,0.375 -0.125,0.125 0.125,-0.125 -0.125,-0.375 0.081,-0.581 ; -1.2,-0.6 1.2,-0.6 1.2,0.6 -1.2,0.6 -1.2,-0.6
Mechanical 13:
  lines w0: -0.125,-0.375 -0.125,-0.375
  lines w0.1: 0.125,0.375 0.125,0.375
3D body "User Library-RESC1608X05N.step": height 0.45, standoff 0, extent -0.775,-0.425 0.775,0.425

## R2012(0805) [mm] "Chip Resistor 2012(0805)"
pads (2):
  rect 1x1.5 smd: 1(-1,0) 2(1,0)
Top Overlay:
  lines w0.1: -0.109,0.366 0.141,0.116 -0.109,-0.134 0.141,-0.384 -0.109,-0.634 0.141,-0.884 ; -0.108,0.372 0.142,0.622 -0.108,0.872 ; -1.625,-0.9 1.625,-0.9 1.625,0.9 -1.625,0.9 -1.625,-0.9
3D body "Resistor 0805.step": height 0.5, standoff 0, extent -1.261,-0.6 1.261,0.65